# Altium schematic symbol library DryBox.SCHLIB: 33 symbols
Pins are listed as number, name and electrical type; pins without a type are passive.

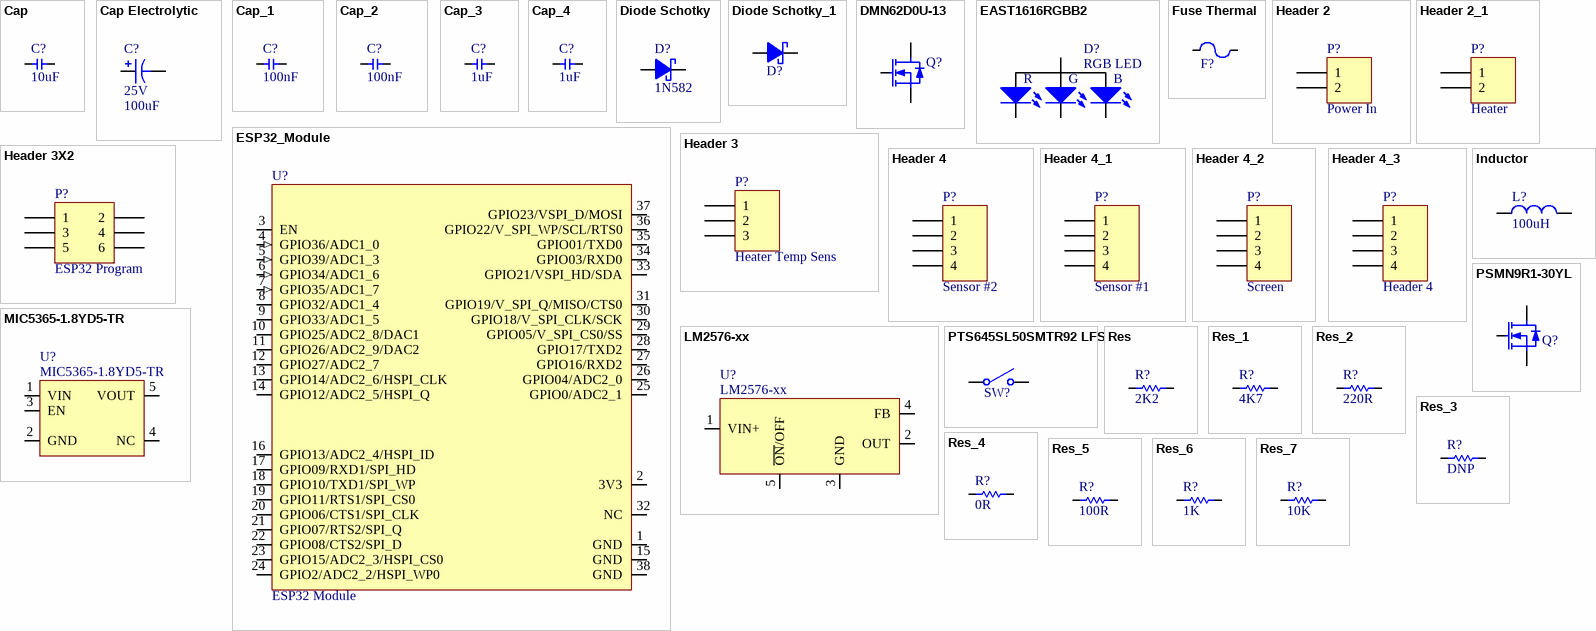
[diagram p0: symbols Cap to Res_7]

## Cap
designator C?  value 10uF  (hidden comment: Cap)
Capacitor; Manufacturer: Samsung Electro-Mechanics; Manufacturer Part Number: CL10A106MO8NQNC; Distributor Part Number: 1276-1870-1-ND; Distributor: DigiKey
footprint Cap 0.2 (Razmak 2x 2.54)
simulation model CAP (Capacitor)
signal-integrity model Cap
footprint 1206
footprint Cap Disc Ceramic 0.2 (Ceramic capacitor 5.40mm)
footprint Cap Ceramic 0.2 (Zuti Keramicki Kondenzator)
footprint 0805
footprint Cap 0.1 (Razmak 2.54)
footprint 0603 - CAP
footprint 0402 (Chip Resistor, 2-Leads, Body 1,00x0,50mm, IPC Low Density)
footprint CAPC_1411_3528_X08N (Chip Capacitor, 2-Leads, Body 3.50x2.80mm, IPC Medium Density)
footprint 0603 - CAP HS
pins: 1, 2

## Cap Electrolytic
designator C?, comment 25V  value 100uF
Polarized Capacitor (Axial); Manufacturer: Würth Elektronik; Manufacturer Part Number: 860160674021; Distributor: DigiKey; Distributor Part Number: 732-9599-1-ND
footprint Electrolytic Cap 2.54mm (Elektrolitski kondenzator, razmak 2.54mm)
footprint Electrolytic Cap 3.2mm (Elektrolitski kondenzator, razmak 3.2mm 470uF)
pins: 1, 2
1 alternate drawing of the same symbol

## Cap_1
designator C?, comment value 100nF  (hidden comment: Cap)
Capacitor; Manufacturer: Samsung Electro-Mechanics; Manufacturer Part Number: CL10B103KB8NNNC; Distributor Part Number: 1276-1009-1-ND; Distributor: DigiKey
footprint Cap 0.2 (Razmak 2x 2.54)
simulation model CAP (Capacitor)
signal-integrity model Cap
footprint 1206
footprint Cap Disc Ceramic 0.2 (Ceramic capacitor 5.40mm)
footprint Cap Ceramic 0.2 (Zuti Keramicki Kondenzator)
footprint 0805
footprint Cap 0.1 (Razmak 2.54)
footprint 0603 - CAP
footprint 0402 (Chip Resistor, 2-Leads, Body 1,00x0,50mm, IPC Low Density)
footprint CAPC_1411_3528_X08N (Chip Capacitor, 2-Leads, Body 3.50x2.80mm, IPC Medium Density)
footprint 0603 - CAP HS
pins: 1, 2

## Cap_2
designator C?, comment value 100nF  (hidden comment: Cap)
Capacitor; Manufacturer: Samsung Electro-Mechanics; Manufacturer Part Number: CL10B103KB8NNNC; Distributor Part Number: 1276-1009-1-ND; Distributor: DigiKey
footprint Cap 0.2 (Razmak 2x 2.54)
footprint 1206
footprint Cap Disc Ceramic 0.2 (Ceramic capacitor 5.40mm)
footprint Cap Ceramic 0.2 (Zuti Keramicki Kondenzator)
footprint 0805
footprint Cap 0.1 (Razmak 2.54)
footprint 0603 - CAP
footprint 0402 (Chip Resistor, 2-Leads, Body 1,00x0,50mm, IPC Low Density)
footprint CAPC_1411_3528_X08N (Chip Capacitor, 2-Leads, Body 3.50x2.80mm, IPC Medium Density)
pins: 1, 2

## Cap_3
designator C?, comment value 1uF  (hidden comment: Cap)
Capacitor; Manufacturer: Samsung Electro-Mechanics; Manufacturer Part Number: CL10A105KB8NNNC; Distributor Part Number: 1276-1860-1-ND; Distributor: DigiKey
footprint Cap 0.2 (Razmak 2x 2.54)
footprint 1206
footprint Cap Disc Ceramic 0.2 (Ceramic capacitor 5.40mm)
footprint Cap Ceramic 0.2 (Zuti Keramicki Kondenzator)
footprint 0805
footprint Cap 0.1 (Razmak 2.54)
footprint 0603 - CAP
footprint 0402 (Chip Resistor, 2-Leads, Body 1,00x0,50mm, IPC Low Density)
footprint CAPC_1411_3528_X08N (Chip Capacitor, 2-Leads, Body 3.50x2.80mm, IPC Medium Density)
pins: 1, 2

## Cap_4
designator C?, comment value 1uF  (hidden comment: Cap)
Capacitor; Manufacturer: Samsung Electro-Mechanics; Manufacturer Part Number: CL10A105KB8NNNC; Distributor Part Number: 1276-1860-1-ND; Distributor: DigiKey
footprint Cap 0.2 (Razmak 2x 2.54)
simulation model CAP (Capacitor)
signal-integrity model Cap
footprint 1206
footprint Cap Disc Ceramic 0.2 (Ceramic capacitor 5.40mm)
footprint Cap Ceramic 0.2 (Zuti Keramicki Kondenzator)
footprint 0805
footprint Cap 0.1 (Razmak 2.54)
footprint 0603 - CAP
footprint 0402 (Chip Resistor, 2-Leads, Body 1,00x0,50mm, IPC Low Density)
footprint CAPC_1411_3528_X08N (Chip Capacitor, 2-Leads, Body 3.50x2.80mm, IPC Medium Density)
footprint 0603 - CAP HS
pins: 1, 2

## Diode Schotky
designator D?, comment 1N582
Manufacturer: Nexperia USA Inc.; Manufacturer Part Number: PMEG6010CEH,115; Distributor: DigiKey; Distributor Part Number: 1727-3848-1-ND
footprint 1206 Polarized (SMT LED; 2 Flat Leads)
footprint 0805 -  LED
footprint Axial 0.3 - Polarized (Razmak 3x 2.54)
footprint Axial 0.4 - Polarized (Razmak 4x 2.54)
footprint Axial 0.5 - Polarized (Razmak 5x 2.54)
footprint SOD80C
footprint SMA2
footprint SOD128
footprint SOD123
footprint SOD123F
footprint SOD323
footprint SOD323_HS (SOD323  Hand Solder Large Footprint)
pins: A, K

## Diode Schotky_1
designator D?, comment Diode Schotky  (value not drawn)
Manufacturer: Nexperia USA Inc.; Manufacturer Part Number: PMEG6010CEH,115; Distributor: DigiKey; Distributor Part Number: 1727-3848-1-ND
footprint 1206 Polarized (SMT LED; 2 Flat Leads)
footprint 0805 -  LED
footprint Axial 0.3 - Polarized (Razmak 3x 2.54)
footprint Axial 0.4 - Polarized (Razmak 4x 2.54)
footprint Axial 0.5 - Polarized (Razmak 5x 2.54)
footprint SOD80C
footprint SMA2
footprint SOD128
footprint SOD123
footprint SOD123F
footprint SOD323
footprint SOD323_HS (SOD323  Hand Solder Large Footprint)
pins: A, K

## DMN62D0U-13
designator Q?  (value not drawn)
MOSFET N-CH 60V 0.38A; Manufacturer: Diodes Incorporated; Manufacturer Part Number: DMN62D0U-13; Distributor: DigiKey; Distributor Part Number: DMN62D0U-13DICT-ND
footprint SOT90P240X100-3N (SOT23, 3-Leads, Body 2.90x2.40mm, Pitch 0.90mm, IPC Medium Density)
pins: 1 G, 2 S, 3 D

## EAST1616RGBB2
designator D?, comment RGB LED
Red, Green, Blue (RGB) - LED Indication - Discrete 1.9V Red, 2.8V Green, 2.8V Blue 0606 (1616 Metric); Manufacturer: Everlight Electronics Co Ltd; Manufacturer Part Number: EAST1616RGBB2; Distributor: DigiKey; Distributor Part Number: 1080-1551-1-ND
footprint RGB LED - 0606 (1616 Metric) (4-SMD - 1.60mm L x 1.60mm W)
pins: 1, 2, 3, 4
text: R; G; B

## ESP32_Module
designator U?, comment ESP32 Module
Manufacturer Part Number: ESP32-WROOM-32D (4MB HIGH TEMP); Manufacturer: Espressif Systems
footprint ESP32-WROOM-32
pins: 1 GND, 2 3V3, 3 EN, 4 GPIO36/ADC1_0 (in), 5 GPIO39/ADC1_3 (in), 6 GPIO34/ADC1_6 (in), 7 GPIO35/ADC1_7 (in), 8 GPIO32/ADC1_4, 9 GPIO33/ADC1_5, 10 GPIO25/ADC2_8/DAC1, 11 GPIO26/ADC2_9/DAC2, 12 GPIO27/ADC2_7, 13 GPIO14/ADC2_6/HSPI_CLK, 14 GPIO12/ADC2_5/HSPI_Q, 15 GND, 16 GPIO13/ADC2_4/HSPI_ID, 17 GPIO09/RXD1/SPI_HD, 18 GPIO10/TXD1/SPI_WP, 19 GPIO11/RTS1/SPI_CS0, 20 GPIO06/CTS1/SPI_CLK, 21 GPIO07/RTS2/SPI_Q, 22 GPIO08/CTS2/SPI_D, 23 GPIO15/ADC2_3/HSPI_CS0, 24 GPIO2/ADC2_2/HSPI_WP0, 25 GPIO0/ADC2_1, 26 GPIO04/ADC2_0, 27 GPIO16/RXD2, 28 GPIO17/TXD2, 29 GPIO05/V_SPI_CS0/SS, 30 GPIO18/V_SPI_CLK/SCK, 31 GPIO19/V_SPI_Q/MISO/CTS0, 32 NC, 33 GPIO21/VSPI_HD/SDA, 34 GPIO03/RXD0, 35 GPIO01/TXD0, 36 GPIO22/V_SPI_WP/SCL/RTS0, 37 GPIO23/VSPI_D/MOSI, 38 GND

## Fuse Thermal
designator F?  (value not drawn)
Thermal Fuse; Manufacturer: Bourns Inc.; Manufacturer Part Number: SF-1206SP200-2; Distributor: DigiKey; Distributor Part Number: SF-1206SP200-2CT-ND
footprint 1812F (1812 Fuse Footprint)
footprint 0603
pins: 1, 2

## Header 2
designator P?, comment Power In
Header, 2-Pin
footprint Header 2x1 (Jumper 2x2,54mm)
pins: 1, 2

## Header 2_1
designator P?, comment Heater
Header, 2-Pin
footprint Header 2x1 (Jumper 2x2,54mm)
pins: 1, 2

## Header 3
designator P?, comment Heater Temp Sens
Header, 3-Pin
footprint Header 3x1 (Connector; Header; 3 Position)
footprint Header 3x1 SMD (Connector; Header; 3 Position)
pins: 1, 2, 3

## Header 3X2
designator P?, comment ESP32 Program
Header, 3-Pin, Dual row
footprint HDR2X3 (Connector; Header; 3x2 Position)
signal-integrity model Connector
pins: 1, 2, 3, 4, 5, 6

## Header 4
designator P?, comment Sensor #2
Header, 4-Pin; Supplier 1: Digi-Key; Supplier Part Number 1: S1011EC-04-ND
footprint Header 4x1 (Connector; Header; 4 Position)
footprint Header 4x1 M - 90Deg - SMT (Connector; Header; 4 Position, Right Angle, SMT)
footprint Header 4x1 F - 90Deg - SMT (Connector; Header; 4 Position, Right Angle, SMT)
pins: 1, 2, 3, 4

## Header 4_1
designator P?, comment Sensor #1
Header, 4-Pin
footprint Header 4x1 (Connector; Header; 4 Position)
footprint Header 4x1 M - 90Deg - SMT (Connector; Header; 4 Position, Right Angle, SMT)
footprint Header 4x1 F - 90Deg - SMT (Connector; Header; 4 Position, Right Angle, SMT)
pins: 1, 2, 3, 4

## Header 4_2
designator P?, comment Screen
Header, 4-Pin
footprint Header 4x1 (Connector; Header; 4 Position)
footprint Header 4x1 M - 90Deg - SMT (Connector; Header; 4 Position, Right Angle, SMT)
footprint Header 4x1 F - 90Deg - SMT (Connector; Header; 4 Position, Right Angle, SMT)
pins: 1, 2, 3, 4

## Header 4_3
designator P?, comment Header 4
Header, 4-Pin
footprint Header 4x1 (Connector; Header; 4 Position)
footprint Header 4x1 M - 90Deg - SMT (Connector; Header; 4 Position, Right Angle, SMT)
footprint Header 4x1 F - 90Deg - SMT (Connector; Header; 4 Position, Right Angle, SMT)
pins: 1, 2, 3, 4

## Inductor
designator L?  value 100uH  (hidden comment: Inductor)
Manufacturer: TDK Corporation; Manufacturer Part Number: VLS6045AF-101M; Distributor: DigiKey; Distributor Part Number: 445-180842-1-ND
footprint 0402-A (Chip Inductor, Body 1.0x0.5mm, IPC High Density)
footprint INDC1608L (Chip Inductor, Body 1.6x0.8mm, IPC High Density)
footprint 2029 (Chip Inductor, Body 2.0x1.2mm, IPC High Density)
footprint 0603 (Chip Inductor, Body 0.6x0.3mm, IPC High Density)
footprint INDC3216 (Chip Inductor, Body 3.2x1.6mm, IPC High Density)
footprint INDC4532 (Chip Inductor, Body 4.5x3.2mm, IPC High Density)
simulation model INDUCTOR (Inductor)
signal-integrity model Inductor
footprint Toroidal Inductor
footprint CW8A (CW8A inductor footprint)
footprint DRH74
footprint 2518
footprint IND_TH_SMD
pins: 1, 2

## LM2576-xx
designator U?
Switching mode regulator [ 3v3, 5v, 12v and ADJ ]; Manufacturer: Texas Instruments; Manufacturer Part Number: LM2576S-5.0/NOPB; Distributor: DigiKey; Distributor Part Number: LM2576S-5.0/NOPB-ND
footprint TO-220-5 (TO-220 Pack with 5 pins)
footprint TO263-5 (TO263-5 SMT package)
pins: 1 VIN+, 2 OUT, 3 GND, 4 FB, 5 ~{ON}/OFF

## MIC5365-1.8YD5-TR
designator U?
High-Performance Single 1.8V@150mA LDO; Manufacturer: Microchip Technology; Manufacturer Part Number: MIC5365-1.8YD5-TR; Distributor: DigiKey; Distributor Part Number: 576-4082-1-ND
footprint SOT-23-5 - duplicate
pins: 1 VIN, 2 GND, 3 EN, 4 NC, 5 VOUT

## PSMN9R1-30YL
designator Q?  (value not drawn)
MOSFET N-CH 30V 37A LFPAK; Manufacturer: Nexperia USA Inc.; Manufacturer Part Number: PSMN011-30YLC,115; Distributor: DigiKey
footprint LFPAK-8 (LFPAK Power Pack)
pins: D, G, S

## PTS645SL50SMTR92 LFS
designator SW?, comment SWITCH TACTILE SPST-NO 0.05A 12V  (value not drawn)
Manufacturer: C&K; Manufacturer Part Number: PTS645SL50SMTR92 LFS; Distributor Part Number: CKN9088CT-ND; Distributor: DigiKey
footprint PTS645 (6mm Tact Switch)
footprint 5mm_5mm_Switch_SMT (5mm Tact Switch)
pins: 1 COMMON1, 2 COMMON1, 3 COMMON2, 4 COMMON2

## Res
designator R?  value 2K2  (hidden comment: Res)
Resistor; Manufacturer: Stackpole Electronics Inc; Manufacturer Part Number: RMCF0603JT2K20; Distributor: DigiKey; Distributor Part Number: RMCF0603JT2K20CT-ND
footprint Axial 0.3 (Razmak 3x 2.54)
footprint Axial 0.4 (Razmak 4x 2.54)
footprint Axial 0.5 (Razmak 5x 2.54)
footprint Radial0.1 (Razmak 2.54)
footprint Radial0.2 (Razmak 2x 2.54)
footprint 1206
footprint 0805
footprint 0603
footprint RES_POWER_MT5
footprint 0402 (Chip Resistor, 2-Leads, Body 1,00x0,50mm, IPC Low Density)
footprint 0603 - HS
pins: 1, 2

## Res_1
designator R?, comment value 4K7  (hidden comment: Res)
Resistor; Manufacturer: Stackpole Electronics Inc; Manufacturer Part Number: RMCF0603FT4K70; Distributor: DigiKey; Distributor Part Number: RMCF0603FT4K70CT-ND
footprint Axial 0.3 (Razmak 3x 2.54)
footprint Axial 0.4 (Razmak 4x 2.54)
footprint Axial 0.5 (Razmak 5x 2.54)
footprint Radial0.1 (Razmak 2.54)
footprint Radial0.2 (Razmak 2x 2.54)
footprint 1206
footprint 0805
footprint 0603
footprint RES_POWER_MT5
footprint 0402 (Chip Resistor, 2-Leads, Body 1,00x0,50mm, IPC Low Density)
footprint 0603 - HS
pins: 1, 2

## Res_2
designator R?, comment value 220R  (hidden comment: Res)
Resistor; Manufacturer: Stackpole Electronics Inc; Manufacturer Part Number: RMCF0603FT220R; Distributor: DigiKey; Distributor Part Number: RMCF0603FT220RCT-ND
footprint Axial 0.3 (Razmak 3x 2.54)
footprint Axial 0.4 (Razmak 4x 2.54)
footprint Axial 0.5 (Razmak 5x 2.54)
footprint Radial0.1 (Razmak 2.54)
footprint Radial0.2 (Razmak 2x 2.54)
footprint 1206
footprint 0805
footprint 0603
footprint RES_POWER_MT5
footprint 0402 (Chip Resistor, 2-Leads, Body 1,00x0,50mm, IPC Low Density)
footprint 0603 - HS
pins: 1, 2

## Res_3
designator R?, comment value DNP  (hidden comment: Res)  (no BOM)
Resistor; Distributor: DigiKey
footprint Axial 0.3 (Razmak 3x 2.54)
footprint Axial 0.4 (Razmak 4x 2.54)
footprint Axial 0.5 (Razmak 5x 2.54)
footprint Radial0.1 (Razmak 2.54)
footprint Radial0.2 (Razmak 2x 2.54)
footprint 1206
footprint 0805
footprint 0603
footprint RES_POWER_MT5
footprint 0402 (Chip Resistor, 2-Leads, Body 1,00x0,50mm, IPC Low Density)
footprint 0603 - HS
pins: 1, 2

## Res_4
designator R?, comment value 0R  (hidden comment: Res)
Resistor; Manufacturer: Stackpole Electronics Inc; Manufacturer Part Number: RMCF0603ZT0R00; Distributor: DigiKey; Distributor Part Number: RMCF0603ZT0R00CT-ND
footprint Axial 0.3 (Razmak 3x 2.54)
footprint Axial 0.4 (Razmak 4x 2.54)
footprint Axial 0.5 (Razmak 5x 2.54)
footprint Radial0.1 (Razmak 2.54)
footprint Radial0.2 (Razmak 2x 2.54)
footprint 1206
footprint 0805
footprint 0603
footprint RES_POWER_MT5
footprint 0402 (Chip Resistor, 2-Leads, Body 1,00x0,50mm, IPC Low Density)
footprint 0603 - HS
pins: 1, 2

## Res_5
designator R?, comment value 100R  (hidden comment: Res)
Resistor; Manufacturer: Stackpole Electronics Inc; Manufacturer Part Number: RMCF0603FT100R; Distributor: DigiKey; Distributor Part Number: RMCF0603FT100RCT-ND
footprint Axial 0.3 (Razmak 3x 2.54)
footprint Axial 0.4 (Razmak 4x 2.54)
footprint Axial 0.5 (Razmak 5x 2.54)
footprint Radial0.1 (Razmak 2.54)
footprint Radial0.2 (Razmak 2x 2.54)
footprint 1206
footprint 0805
footprint 0603
footprint RES_POWER_MT5
footprint 0402 (Chip Resistor, 2-Leads, Body 1,00x0,50mm, IPC Low Density)
footprint 0603 - HS
pins: 1, 2

## Res_6
designator R?, comment value 1K  (hidden comment: Res)
Resistor; Manufacturer: Stackpole Electronics Inc; Manufacturer Part Number: RNCS0603BKE1K00; Distributor: DigiKey; Distributor Part Number: RNCS0603BKE1K00CT-ND
footprint Axial 0.3 (Razmak 3x 2.54)
footprint Axial 0.4 (Razmak 4x 2.54)
footprint Axial 0.5 (Razmak 5x 2.54)
footprint Radial0.1 (Razmak 2.54)
footprint Radial0.2 (Razmak 2x 2.54)
footprint 1206
footprint 0805
footprint 0603
footprint RES_POWER_MT5
footprint 0402 (Chip Resistor, 2-Leads, Body 1,00x0,50mm, IPC Low Density)
footprint 0603 - HS
pins: 1, 2

## Res_7
designator R?, comment value 10K  (hidden comment: Res)
Resistor; Manufacturer: Stackpole Electronics Inc; Manufacturer Part Number: RMCF0603JT10K0; Distributor: DigiKey; Distributor Part Number: RMCF0603JT10K0CT-ND
footprint Axial 0.3 (Razmak 3x 2.54)
footprint Axial 0.4 (Razmak 4x 2.54)
footprint Axial 0.5 (Razmak 5x 2.54)
footprint Radial0.1 (Razmak 2.54)
footprint Radial0.2 (Razmak 2x 2.54)
footprint 1206
footprint 0805
footprint 0603
footprint RES_POWER_MT5
footprint 0402 (Chip Resistor, 2-Leads, Body 1,00x0,50mm, IPC Low Density)
footprint 0603 - HS
pins: 1, 2